# Altium schematic symbol library SCD30.SchLib: 1 symbol
Pins are listed as number, name and electrical type; pins without a type are passive.

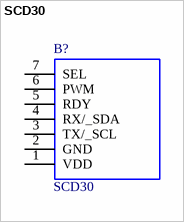
[diagram p0: symbol SCD30]

## SCD30
designator B?
SENSIRION - SCD30 - GAS SENSOR, CO2, 0.075A/5.5V, 40000PPM; Geometry.Height: 7mm; Manufacturer_Name: Sensirion; Manufacturer_Part_Number: SCD30; Mouser Part Number: 403-SCD30; Mouser Price/Stock: https://www.mouser.co.uk/ProductDetail/Sensirion/SCD30?qs=rrS6PyfT74fdywu4FxpYjQ%3D%3D; Arrow Part Number: SCD30; Arrow Price/Stock: https://www.arrow.com/en/products/scd30/sensirion-ag; Mouser Testing Part Number: *; Mouser Testing Price/Stock: *; Datasheet Link: https://www.mouser.com/datasheet/2/682/Sensirion_CO2_Sensors_SCD30_Datasheet-1510853.pdf
footprint SCD30
pins: 1 VDD, 2 GND, 3 TX/_SCL, 4 RX/_SDA, 5 RDY, 6 PWM, 7 SEL